# EAGLE library part 10118194-0001 (library all-connectors)
10118194-0001 Amphenol FCI Micro Usb, 2.0 Type b, Rcpt, Smt
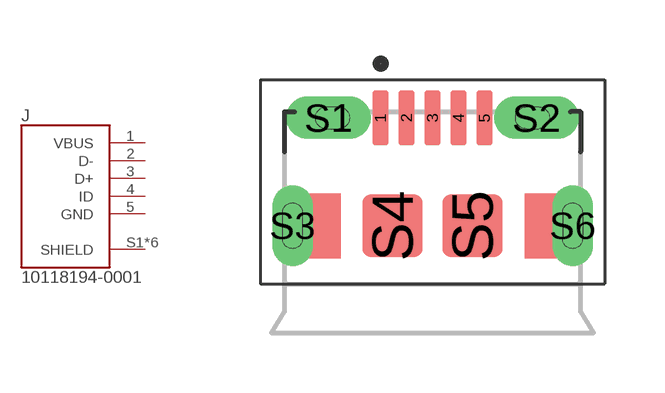
[diagram p31: symbol with the pads of 10118194-0001-2L; footprint 10118194-0001-2L]

Designator prefix J

## 10118194-0001LF  [10118194-0001-2L]
1  VBUS  pwr
2  D-
3  D+
4  ID  in
5  GND  pwr
S1  SHIELD  pwr
S2  SHIELD  pwr
S3  SHIELD  pwr
S4  SHIELD  pwr
S5  SHIELD  pwr
S6  SHIELD  pwr

## Footprint 10118194-0001-2L (pad centres in mm)
smd 0.4 x 1.35: 1 -1.3,2.7; 2 -0.65,2.7; 3 0,2.7; 4 0.65,2.7; 5 1.3,2.7
drill 0.55 pad 0.8 long: S1 -2.6,2.7; S2 2.6,2.7
drill 0.5 pad 0.8 long: S3 -3.5,0; S6 3.5,0
smd 1.5 x 1.55: S4 -1,0; S5 1,0